# Altium schematic symbol library LIBRERIAPROYECTO.SchLib: 10 symbols
Pins are listed as number, name and electrical type; pins without a type are passive.

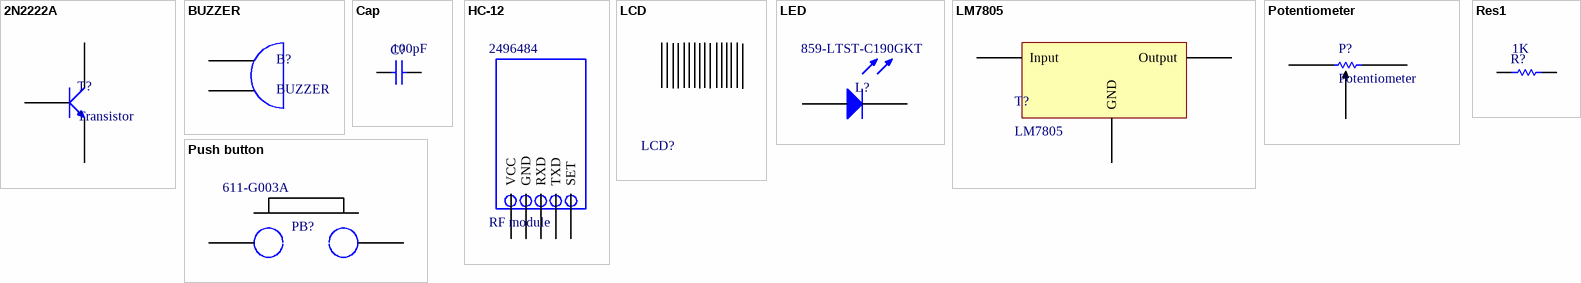
[diagram p0: symbols 2N2222A to Res1]

## 2N2222A
designator T?, comment Transistor
Manufacturer: NTE Electronics; Manufacturer Part Number: 2N2222A; Polarity: NPN; Collector Emitter Breakdown Voltage: 40V; Max Power Dissipation: 1.2W; Transition Frequency: 300MHz; Supplier 1: Allied Electronics; Stock 1: 4414; Pricing 1: 1=0.48 (USD); Case/Package: TO-18; Number of Pins: 3; Max Operating Temperature: 200°C; Collector Emitter Voltage (VCEO): 40V; Lead Free: Contains Lead; REACH SVHC: No SVHC; Supplier Part Number 1: 70725575
footprint 2N2222a (Transistor)
pins: 1 C, 33 B, 34 E

## BUZZER
designator B?
Buzzer 3-12V; Manufacturer: Murata; Manufacturer Part Number: PKB24SPCH3601-B0; Frequency: 3.6kHz; Max Supply Voltage: 15V; Voltage Rating: 12V; Min Supply Voltage: 3V; Max Frequency: 4.1kHz; Nominal Supply Current: 16mA; Washable: No; Supplier 1: RSComponents; Stock 1: 0; Mount: Flush,PCB,Through Hole; Min Operating Temperature: -20°C; Max Operating Temperature: 70°C; Termination: PC Pins; Self Resonant Frequency: 3.6kHz; Package Quantity: 650; Packaging: Bulk; Voltage Rating (DC): 15V; Nominal Supply Voltage (DC): 12V; Max Supply Voltage (DC): 15V; Min Supply Voltage (DC): 3V; Operating Supply Current: 16mA; Max Supply Current: 16mA; Diameter: 24.3mm; Length: 24.3mm; Height: 9.7mm; Radiation Hardening: No; REACH SVHC: No SVHC; Lead Free: Lead Free; Supplier Part Number 1: 5168274P
footprint Buzzer (3.5-12V)
pins: 1 VCC, 36 VEE

## Cap
designator C?  value 100pF
Capacitor Ceramico; Manufacturer: KEMET; Manufacturer Part Number: C0402C104K8PACTU; Capacitance: 100nF; Tolerance: 10%; Voltage Rating: 10V; Dielectric: X5R; Dissipation Factor: 5%; Published: 8-Jun-2000; LatestRevisionDate: 17-Jul-2002; LatestRevisionNote: Re-released for DXP Platform.; PackageReference: RAD-0.3; Publisher: Altium Limited; PackageDescription: Radial Cap, Thru-Hole; 2 Leads; 0.3 in Pin Spacing; Supplier 1: Arrow; Stock 1: 0; Mount: PCB,Surface Mount; Case/Package: 0402; Number of Pins: 2; Case Code (Metric): 1005; Case Code (Imperial): 0402; Dielectric Material: Ceramic; Contact Plating: Matte,Tin; Min Operating Temperature: -55°C; Max Operating Temperature: 85°C; Voltage Rating (DC): 10V; Package Quantity: 1; Packaging: Tape and Reel; Termination: SMD/SMT; Voltage: 10V; Length: 1mm; Height: 0.5mm; Width: 0.02inch; Depth: 0.5mm; Thickness: 0.022inch; Lead Pitch: 0.3mm; Radiation Hardening: No; REACH SVHC: No SVHC; Lead Free: Lead Free; Supplier Part Number 1: C0402C104K8PAC7867
simulation model CAP (Capacitor)
signal-integrity model Cap
footprint RAD-0.3 (Radial Cap, Thru-Hole; 2 Leads; 0.3 in Pin Spacing)
pins: 1, 2

## HC-12
designator U?, comment RF module  Supplier Part Number 1: 2496484
HC-11 1000m; Manufacturer: Microchip; Manufacturer Part Number: MRF89XAM8A-I/RM; Max Supply Voltage: 3.6V; Min Supply Voltage: 2.1V; Operating Supply Voltage: 3.3V; Data Rate: 40Kbps; Number of Channels: 59; Nominal Supply Current: 25mA; Interface: SPI; Frequency: 870MHz; Sensitivity: -113dBm; Current - Receiving: 3mA; Logic Function: Transceiver; Propagation Delay: 25ns; Number of Transmitters: 1; Simplex/Duplex: Half Duplex; Operating Supply Current: 18mA; Mount: Surface Mount; Case/Package: Module; Number of Pins: 12; Contact Plating: Matte,Tin; Min Operating Temperature: -40°C; Max Operating Temperature: 85°C; Packaging: Tray; Package Quantity: 54; Max Frequency: 870MHz; Current - Transmitting: 25mA; Length: 27.94mm; Height: 0.075inch; Width: 0.7inch; Depth: 17.78mm; Radiation Hardening: No; Lead Free: Lead Free; REACH SVHC: No SVHC; Supplier 1: Farnell; Stock 1: 13; Pricing 1: 1=49.59, 5=48.04, 10=47.12, 25=40.3 (GBP); Weight: 0.004706oz; Number of Receivers: 1; Number of Drivers: 1; Number of Transceivers: 1
footprint HC-12 (RF module)
pins: 1 SET, 2 TXD, 3 RXD, 4 GND, 5 VCC

## LCD
designator LCD?, comment LCD 16*2  (value not drawn)
Manufacturer: Newhaven Display; Manufacturer Part Number: NHD-0216K3Z-FL-GBW-V3; Interface: I2C,RS-232,SPI; Operating Supply Voltage: 5V; Backlight Type: LED; Number of Characters: 32; Background Colour: Green; Supplier 1: Allied Electronics; Stock 1: 0; Min Operating Temperature: -20°C; Max Operating Temperature: 70°C; Package Quantity: 100; Supplier Part Number 1: 70518162
footprint LCD (LCD 16x2)
pins: A, D0, D1, D2, D3, D4, D5, D6, D7, E, K, RS, RW, V0, VDD, VSS

## LED
designator L?  Supplier Part Number 1: 859-LTST-C190GKT  (hidden comment: LED)
Manufacturer: Vishay Lite-On; Manufacturer Part Number: LTST-C190GKT; Colour: Green; Lens Colour: Clear,Colorless; Luminous Intensity: 6mcd; Forward Voltage: 2.1V; Viewing Angle: 130°; Lens Style: Clear,Colorless,Diffused,Rectangular; Forward Current: 30mA; Test Current: 10mA; Number of Elements: 1; Power Dissipation: 100mW; Reverse Voltage: 5V; Dominant Wavelength: 569nm; Wavelength: 565nm; Lens Transparency: Clear; Voltage: 2V; Current: 1A; Supplier 1: Mouser; Stock 1: 402291; Pricing 1: 1=0.25, 10=0.13, 50=0.13, 100=0.061, 1000=0.045, 10000=0.034 (USD); Mount: Surface Mount; Case/Package: 0603; Number of Pins: 2; Case Code (Metric): 1608; Case Code (Imperial): 0603; Min Operating Temperature: -55°C; Max Operating Temperature: 85°C; Package Quantity: 1; Packaging: Tape and Reel; Illumination Colour: Green; Number of LEDs: 1; Power Rating: 100mW; Length: 1.6mm; Height: 0.8mm; Width: 0.8mm; Depth: 0.8mm; Radiation Hardening: No; Lead Free: Lead Free
footprint LED
pins: 1, 2

## LM7805
designator T?
Voltage Regulator; Manufacturer: ON Semiconductor / Fairchild; Manufacturer Part Number: LM7805CT; Output Voltage: 5V; Number of Outputs: 1; Max Input Voltage: 35V; Polarity: Positive; Output Type: Fixed; Output Current: 1A; Min Input Voltage: 7V; Quiescent Current: 8mA; Dropout Voltage: 2V; Accuracy: 4%; Power Supply Rejection Ratio (PSRR): 73dB; Max Output Voltage: 5.2V; Supplier 1: Newark; Stock 1: 0; Mount: Through Hole; Case/Package: TO-220-3; Number of Pins: 3; Weight: 1.214g; Min Operating Temperature: -40°C; Max Operating Temperature: 125°C; Packaging: Rail/Tube; Package Quantity: 50; Number of Regulators: 1; Output Voltage Accuracy: 4%; Max Output Current: 1A; Current Rating: 1A; Nominal Output Voltage: 5V; Min Output Voltage: 5V; Length: 10.67mm; Height: 16.3mm; Width: 4.7mm; Radiation Hardening: No; Lead Free: Lead Free; REACH SVHC: No SVHC; Supplier Part Number 1: 34C1092
footprint LM7805 (Voltage Regulator)
pins: Ground GND, Input, Output

## Potentiometer
designator P?
Manufacturer: Bourns; Manufacturer Part Number: 91A1A-G28-B15L; Resistance: 10kR; Tolerance: 20%; Power Rating: 500mW; Number of Gangs: 1; Temperature Coefficient: 1000ppm/°C; Voltage Rating: 1.5kV; Max Power Dissipation: 1W; Actuator Length: 0.875inch; Actuator Diameter: 0.25inch; Hole Diameter: 9.525mm; Supplier 1: Mouser; Stock 1: 86; Pricing 1: 1=7.31, 10=7.05, 50=5.75, 100=5.22, 1000=3.53, 10000=3.53 (USD); Mount: Panel,Through Hole; Case/Package: Metal; Weight: 0.447979oz; Min Operating Temperature: -40°C; Max Operating Temperature: 125°C; Composition: Conductive Plastic; Termination: Pin; Number of Turns: 1; Packaging: Bulk; Package Quantity: 5; Taper: Linear; Voltage Rating (DC): 1.5kV; Length: 15.88mm; Width: 15.88mm; Depth: 22.86mm; REACH SVHC: No SVHC; Supplier Part Number 1: 652-91A1A-G28-B15L
footprint Potentiometer (10k Ohm)
pins: 1, 2, 3

## Push button
designator PB?, comment Supplier Part Number 1: 611-G003A  (hidden comment: Push Button 2-Pin)
Manufacturer: ITT C&K; Manufacturer Part Number: G003A; Shape: Round; Illumination Type: Non-Illuminated; Illumination Colour: Black; Supplier 1: Mouser; Stock 1: 2542; Pricing 1: 1=0.44, 10=0.44, 50=0.425, 100=0.416, 1000=0.296, 10000=0.28 (USD); Colour: Black; Packaging: Bulk; Package Quantity: 500; Diameter: 6.2mm; Height: 9.04mm; Radiation Hardening: No; Lead Free: Lead Free
footprint Push Button (Push button 2 PIN)
pins: 1, 2

## Res1
designator R?  value 1K
Resistor; Published: 8-Jun-2000; LatestRevisionDate: 17-Jul-2002; LatestRevisionNote: Re-released for DXP Platform.; PackageReference: AXIAL-0.3; Publisher: Altium Limited; PackageDescription: Axial Device, Thru-Hole; 2 Leads; 0.3 in Pin Spacing
simulation model RESISTOR (Resistor)
signal-integrity model Res
footprint AXIAL-0.3 (Axial Device, Thru-Hole; 2 Leads; 0.3 in Pin Spacing)
pins: 1, 2